# EAGLE library part TM4C123-64LQFP (library Explore Labs EAGLE Library)
Tiva Launchpad TM4C1232H6PM IC from Texas Instruments Tiva TM4c range of 64 LQFP package ICs used in Launchpads
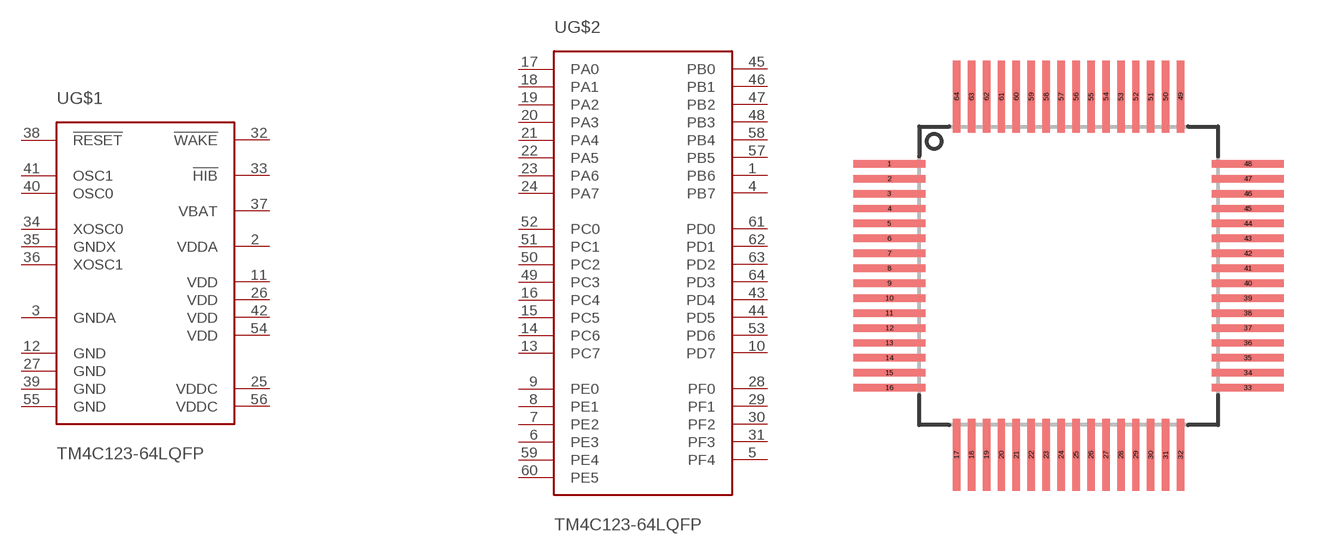
[diagram p8: symbol with the pads of TM4C123-64LQFP; footprint TM4C123-64LQFP]

Designator prefix -; gates G$1=TM4C123-POWER G$2=TM4C123-GPIO

## TM4C123-64LQFP64LQFP  [TM4C123-64LQFP]
1  G$2:PB6
2  G$1:VDDA  pwr
3  G$1:GNDA  pwr
4  G$2:PB7
5  G$2:PF4
6  G$2:PE3
7  G$2:PE2
8  G$2:PE1
9  G$2:PE0
10  G$2:PD7
11  G$1:VDD  pwr
12  G$1:GND  pwr
13  G$2:PC7
14  G$2:PC6
15  G$2:PC5
16  G$2:PC4
17  G$2:PA0
18  G$2:PA1
19  G$2:PA2
20  G$2:PA3
21  G$2:PA4
22  G$2:PA5
23  G$2:PA6
24  G$2:PA7
25  G$1:VDDC  pwr
26  G$1:VDD  pwr
27  G$1:GND  pwr
28  G$2:PF0
29  G$2:PF1
30  G$2:PF2
31  G$2:PF3
32  G$1:!WAKE  in
33  G$1:!HIB  out
34  G$1:XOSC0  in
35  G$1:GNDX  pwr
36  G$1:XOSC1  out
37  G$1:VBAT  pwr
38  G$1:!RESET  in
39  G$1:GND  pwr
40  G$1:OSC0  in
41  G$1:OSC1  out
42  G$1:VDD  pwr
43  G$2:PD4
44  G$2:PD5
45  G$2:PB0
46  G$2:PB1
47  G$2:PB2
48  G$2:PB3
49  G$2:PC3
50  G$2:PC2
51  G$2:PC1
52  G$2:PC0
53  G$2:PD6
54  G$1:VDD  pwr
55  G$1:GND  pwr
56  G$1:VDDC  pwr
57  G$2:PB5
58  G$2:PB4
59  G$2:PE4
60  G$2:PE5
61  G$2:PD0
62  G$2:PD1
63  G$2:PD2
64  G$2:PD3

## Footprint TM4C123-64LQFP (pad centres in mm)
smd 2.4 x 0.25: 1 -6,3.75; 2 -6,3.25; 3 -6,2.75; 4 -6,2.25; 5 -6,1.75; 6 -6,1.25; 7 -6,0.75; 8 -6,0.25; 9 -6,-0.25; 10 -6,-0.75; 11 -6,-1.25; 12 -6,-1.75; 13 -6,-2.25; 14 -6,-2.75; 15 -6,-3.25; 16 -6,-3.75; 33 6,-3.75; 34 6,-3.25; 35 6,-2.75; 36 6,-2.25; 37 6,-1.75; 38 6,-1.25; 39 6,-0.75; 40 6,-0.25; 41 6,0.25; 42 6,0.75; 43 6,1.25; 44 6,1.75; 45 6,2.25; 46 6,2.75; 47 6,3.25; 48 6,3.75
smd 0.25 x 2.4: 17 -3.75,-6; 18 -3.25,-6; 19 -2.75,-6; 20 -2.25,-6; 21 -1.75,-6; 22 -1.25,-6; 23 -0.75,-6; 24 -0.25,-6; 25 0.25,-6; 26 0.75,-6; 27 1.25,-6; 28 1.75,-6; 29 2.25,-6; 30 2.75,-6; 31 3.25,-6; 32 3.75,-6; 49 3.75,6; 50 3.25,6; 51 2.75,6; 52 2.25,6; 53 1.75,6; 54 1.25,6; 55 0.75,6; 56 0.25,6; 57 -0.25,6; 58 -0.75,6; 59 -1.25,6; 60 -1.75,6; 61 -2.25,6; 62 -2.75,6; 63 -3.25,6; 64 -3.75,6